# EAGLE library part SKY13472 (library ruark2)
RF Switch IC SPDT 3GHz 50 Ohm 12-QFN (2x2)
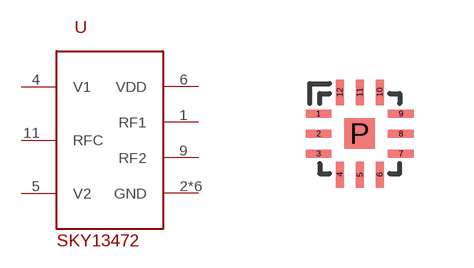
[diagram p17: symbol with the pads of 12QFN22; footprint 12QFN22]

Designator prefix U

## SKY13472 (PARTNO: 863-1653-1-ND)  [12QFN22]
1  RF1
2  GND
4  V1
5  V2
6  VDD
7  GND
8  GND
9  RF2
10  GND
11  RFC
12  GND
P  GND

## Footprint 12QFN22 (pad centres in mm)
smd 0.64 x 0.2: 1 -1.03,0.5; 2 -1.03,0; 3 -1.03,-0.5; 7 1.03,-0.5; 8 1.03,0; 9 1.03,0.5
smd 0.2 x 0.64: 4 -0.5,-1.03; 5 0,-1.03; 6 0.5,-1.03; 10 0.5,1.03; 11 0,1.03; 12 -0.5,1.03
smd 0.76 x 0.76: P 0,0